# Altium schematic symbol library mount_parts.SchLib: 3 symbols
Pins are listed as number, name and electrical type; pins without a type are passive.

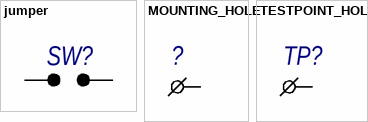
[diagram p0: symbols jumper to TESTPOINT_HOLE]

## jumper
designator SW?
Запаиваемая перемычка
footprint JUMPER_SOLDERED_3x1
pins: 1, 2

## MOUNTING_HOLE
designator ?  (no BOM)
pins: 1

## TESTPOINT_HOLE
designator TP?, comment TESTPOINT  (value not drawn)  (no BOM)
Name: TESTPOINT
footprint TP_0,6X1
pins: 1